# EAGLE library part IS62WV10248EBLL (library BW-Active)
1MB parallel SRAM
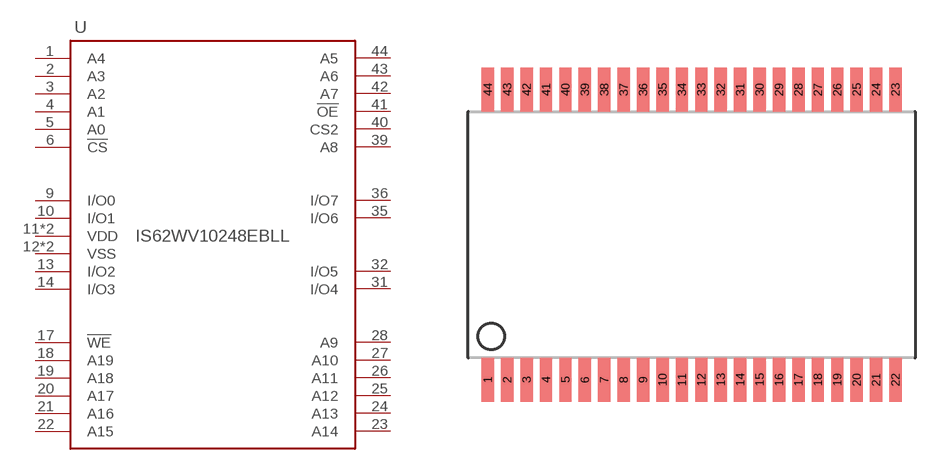
[diagram p43: symbol with the pads of TSOP44; footprint TSOP44]

Designator prefix U

## IS62WV10248EBLL  [TSOP44]
1  A4
2  A3
3  A2
4  A1
5  A0
6  !CS
9  I/O0
10  I/O1
11  VDD
12  VSS
13  I/O2
14  I/O3
17  !WE
18  A19
19  A18
20  A17
21  A16
22  A15
23  A14
24  A13
25  A12
26  A11
27  A10
28  A9
31  I/O4
32  I/O5
33  VDD
34  VSS
35  I/O6
36  I/O7
39  A8
40  CS2
41  !OE
42  A7
43  A6
44  A5

## Footprint TSOP44 (pad centres in mm)
smd 0.508 x 1.8: 1 -8.4,-5.98; 2 -7.6,-5.98; 3 -6.8,-5.98; 4 -6,-5.98; 5 -5.2,-5.98; 6 -4.4,-5.98; 7 -3.6,-5.98; 8 -2.8,-5.98; 9 -2,-5.98; 10 -1.2,-5.98; 11 -0.4,-5.98; 12 0.4,-5.98; 13 1.2,-5.98; 14 2,-5.98; 15 2.8,-5.98; 16 3.6,-5.98; 17 4.4,-5.98; 18 5.2,-5.98; 19 6,-5.98; 20 6.8,-5.98; 21 7.6,-5.98; 22 8.4,-5.98; 23 8.4,5.98; 24 7.6,5.98; 25 6.8,5.98; 26 6,5.98; 27 5.2,5.98; 28 4.4,5.98; 29 3.6,5.98; 30 2.8,5.98; 31 2,5.98; 32 1.2,5.98; 33 0.4,5.98; 34 -0.4,5.98; 35 -1.2,5.98; 36 -2,5.98; 37 -2.8,5.98; 38 -3.6,5.98; 39 -4.4,5.98; 40 -5.2,5.98; 41 -6,5.98; 42 -6.8,5.98; 43 -7.6,5.98; 44 -8.4,5.98